# Altium footprint library PCB - CONNECTOR - MOLEX - MOLEX 0526101233.PcbLib: 1 footprints
Each footprint in its own frame and in the unit in brackets; x right, y up, seen from the top. Pads: shape width x height; smd on the part's side, far side on the other; paste and mask are expansions set on the pad; w line width, h text height; cw(c..) or ccw(c..) is an arc to the next point about the centre after c.
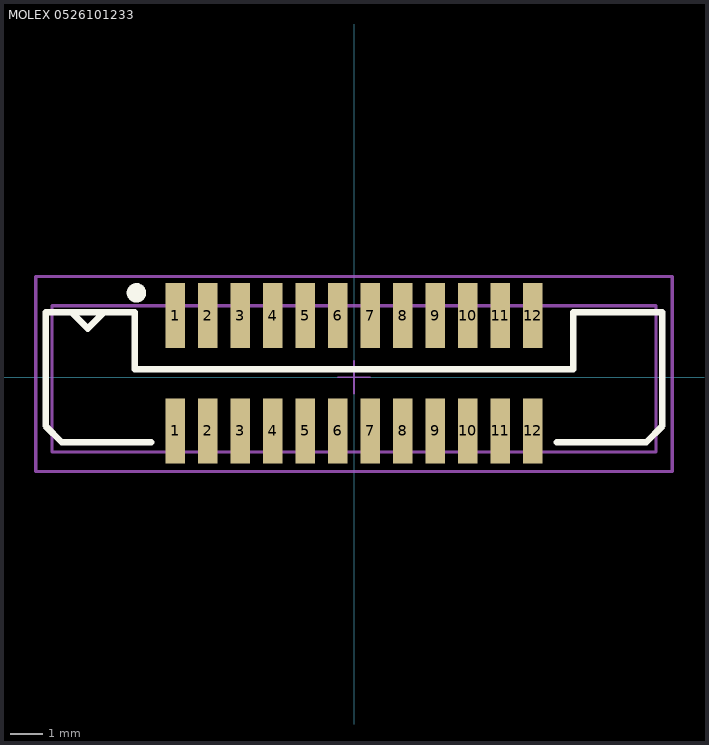
[diagram p0: the footprint, top view; thin cyan lines are the x and y axes]

## MOLEX 0526101233 [mm] "12 Position FPC Connector Contacts, Vertical - 1 Sided 0.039\" (1.00mm) Surface Mount"
height 7.25
pads (24):
  rect 0.6x2 smd mask+0.1: 1(-5.5,1.9) 1(-5.5,-1.65) 2(-4.5,1.9) 2(-4.5,-1.65) 3(-3.5,1.9) 3(-3.5,-1.65) 4(-2.5,1.9) 4(-2.5,-1.65) 5(-1.5,1.9) 5(-1.5,-1.65) 6(-0.5,1.9) 6(-0.5,-1.65) 7(0.5,1.9) 7(0.5,-1.65) 8(1.5,1.9) 8(1.5,-1.65) 9(2.5,1.9) 9(2.5,-1.65) 10(3.5,1.9) 10(3.5,-1.65) 11(4.5,1.9) 11(4.5,-1.65) 12(5.5,1.9) 12(5.5,-1.65)
Top Overlay:
  circle w0.3: c-6.7,2.6 r0.15
  lines w0.2: -8.7,2 -8.2,1.5 -7.7,2 ; -6.25,-2 -9,-2 -9.5,-1.5 -9.5,2 -6.75,2 -6.75,0.25 6.75,0.25 6.75,2 9.5,2 9.5,1.6 9.5,-1.5 9,-2 6.25,-2
Mechanical 13:
  lines w0.1: -9.3,-2.3 9.3,-2.3 9.3,2.2 -9.3,2.2 -9.3,-2.3
Mechanical 15 (Mech15):
  lines w0.05: -0.5,0 0,0 ; 0,-0.5 0,0 ; 0,0.5 0,0 ; 0.5,0 0,0
  lines w0.1: -9.8,-2.9 9.8,-2.9 9.8,3.1 -9.8,3.1 -9.8,-2.9
3D body "Molex - 526101233.stp": height 5.73, standoff -0.02, extent -9.3,-2.25 9.3,2.25